# Altium footprint library SHDRRA3W90P0X350_1X3_1110X920X691P.PcbLib: 1 footprints
Each footprint in its own frame and in the unit in brackets; x right, y up, seen from the top. Pads: shape width x height; smd on the part's side, far side on the other; paste and mask are expansions set on the pad; w line width, h text height; cw(c..) or ccw(c..) is an arc to the next point about the centre after c.
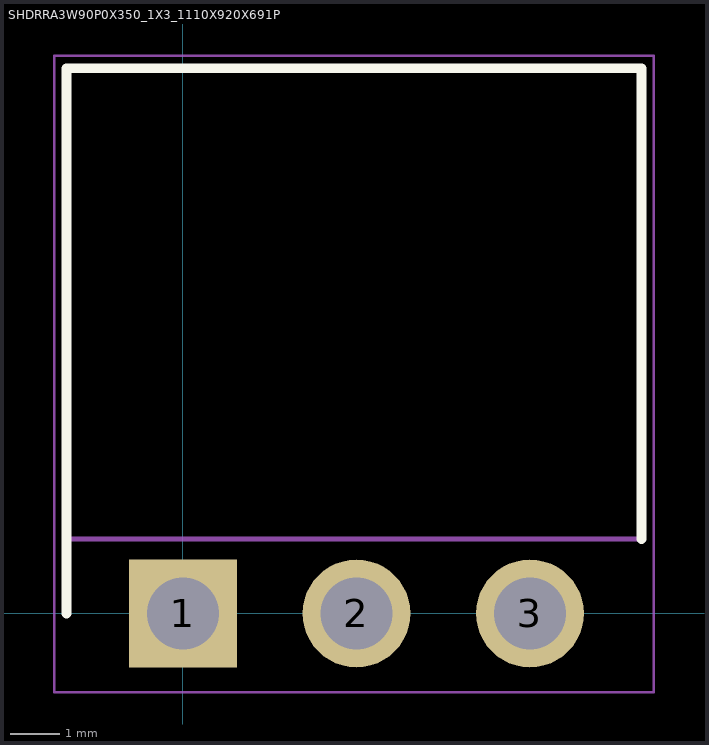
[diagram p0: the footprint, top view; thin cyan lines are the x and y axes]

## SHDRRA3W90P0X350_1X3_1110X920X691P [mm]
pads (3):
  rect 2.175x2.175 / inner round 2.175 / far side rect 2.175x2.175 hole 1.45: 1(0,0)
  round 2.175 hole 1.45: 2(3.5,0) 3(7,0)
Top Overlay:
  lines w0.2: -2.35,0 -2.35,11 9.25,11 9.25,1.5
Mechanical 15:
  lines w0.1: -2.35,1.5 -2.35,11 9.25,11 9.25,1.5 -2.35,1.5
Mechanical 20:
  lines w0.05: -2.6,-1.588 9.5,-1.588 9.5,11.25 -2.6,11.25 -2.6,-1.588